# EAGLE library part 610034243021 (library Board-to-Board (rev18a))
WR-PHD 2.54mm SMT Dual Socket Header Bottom Entry, 34 Pins=>Code : Con_BTB_SHD_2.54_2_610034243021 <http://katalog.we-online.de/media/images/eican/Con_BTB_SHD_2.54_2_6100xx243021_pf2.jpg> http://katalog.we-online.de/en/em/PHD_2_54_SMT_DUAL_SOCKET_HEADER_BOTTOM_ENTRY_6100XX243021 Created 2014-05-30, Karrer Zheng 2014 (C) Würth Elektronik
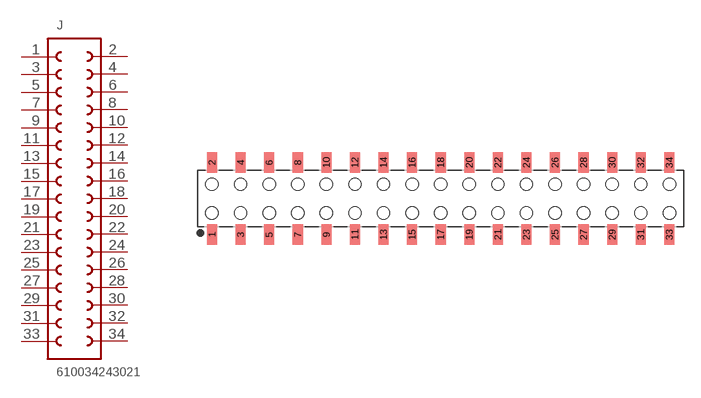
[diagram p303: symbol with the pads of 610034243021; footprint 610034243021]

Designator prefix J

## 610034243021  [610034243021]
1  1  pas
2  34  pas
3  2  pas
4  33  pas
5  3  pas
6  32  pas
7  4  pas
8  31  pas
9  5  pas
10  30  pas
11  6  pas
12  29  pas
13  7  pas
14  28  pas
15  8  pas
16  27  pas
17  9  pas
18  26  pas
19  10  pas
20  25  pas
21  11  pas
22  24  pas
23  12  pas
24  23  pas
25  13  pas
26  22  pas
27  14  pas
28  21  pas
29  15  pas
30  20  pas
31  16  pas
32  19  pas
33  17  pas
34  18  pas

## Footprint 610034243021 (pad centres in mm)
WR-PHD 2.54mm SMT Dual Socket Header Bottom Entry, 34 Pins
smd 0.9 x 1.8: 1 -20.32,-3.2; 2 -20.32,3.2; 3 -17.78,-3.2; 4 -17.78,3.2; 5 -15.24,-3.2; 6 -15.24,3.2; 7 -12.7,-3.2; 8 -12.7,3.2; 9 -10.16,-3.2; 10 -10.16,3.2; 11 -7.62,-3.2; 12 -7.62,3.2; 13 -5.08,-3.2; 14 -5.08,3.2; 15 -2.54,-3.2; 16 -2.54,3.2; 17 0,-3.2; 18 0,3.2; 19 2.54,-3.2; 20 2.54,3.2; 21 5.08,-3.2; 22 5.08,3.2; 23 7.62,-3.2; 24 7.62,3.2; 25 10.16,-3.2; 26 10.16,3.2; 27 12.7,-3.2; 28 12.7,3.2; 29 15.24,-3.2; 30 15.24,3.2; 31 17.78,-3.2; 32 17.78,3.2; 33 20.32,-3.2; 34 20.32,3.2
hole 1.1 at -20.32,1.27
hole 1.1 at -17.78,1.27
hole 1.1 at -17.78,-1.27
hole 1.1 at -20.32,-1.27
hole 1.1 at -15.24,1.27
hole 1.1 at -15.24,-1.27
hole 1.1 at -12.7,1.27
hole 1.1 at -12.7,-1.27
hole 1.1 at -10.16,-1.27
hole 1.1 at -10.16,1.27
hole 1.1 at -7.62,1.27
hole 1.1 at -7.62,-1.27
hole 1.1 at -5.08,-1.27
hole 1.1 at -5.08,1.27
hole 1.1 at -2.54,1.27
hole 1.1 at -2.54,-1.27
hole 1.1 at 0,1.27
hole 1.1 at 0,-1.27
hole 1.1 at 2.54,1.27
hole 1.1 at 2.54,-1.27
hole 1.1 at 5.08,1.27
hole 1.1 at 5.08,-1.27
hole 1.1 at 7.62,-1.27
hole 1.1 at 7.62,1.27
hole 1.1 at 10.16,1.27
hole 1.1 at 10.16,-1.27
hole 1.1 at 12.7,1.27
hole 1.1 at 12.7,-1.27
hole 1.1 at 15.24,-1.27
hole 1.1 at 15.24,1.27
hole 1.1 at 17.78,1.27
hole 1.1 at 17.78,-1.27
hole 1.1 at 20.32,-1.27
hole 1.1 at 20.32,1.27